# EAGLE library part AT93C46A-10?Q-2.7 (library atmel)
3-wire automotive serial EEPROM 1K (64 x 16) Source: http://www.atmel.com/dyn/resources/prod_documents/doc5089.pdf
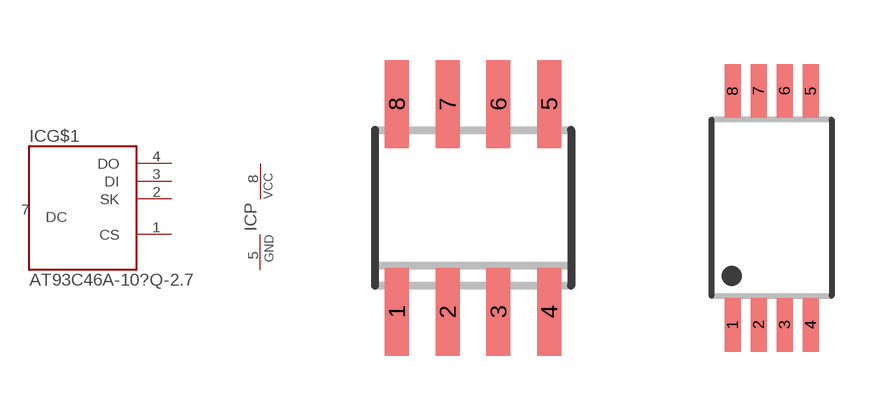
[diagram p7: symbol with the pads of SO8; footprints SO8, MO-153AA]

Designator prefix IC; gates G$1=AT93C46A P=PWR

## AT93C46A-10SQ-2.7  [SO8]
1  G$1:CS  in
2  G$1:SK  in
3  G$1:DI  in
4  G$1:DO  out
5  P:GND  pwr
6  G$1:NC  nc
7  G$1:DC  nc
8  P:VCC  pwr

## AT93C46A-10TQ-2.7  [MO-153AA]
Pads as for SO8

## Footprint SO8 (pad centres in mm)
Small Outline IC, 150mil body width, 50mil lead pitch package/pad dimensions according to IPC-SM-782, RLP No. 300A JEDEC: MS-012 AA IPC: SO8 other notations: SO-8, SO08, SO-08, SOIC8, SOIC-8, SOIC08, SOIC-08
smd 0.6 x 2.2: 1 -1.905,-2.6; 2 -0.635,-2.6; 3 0.635,-2.6; 4 1.905,-2.6; 5 1.905,2.6; 6 0.635,2.6; 7 -0.635,2.6; 8 -1.905,2.6

## Footprint MO-153AA (pad centres in mm)
Small Shrink Outline Package, 3.0mm x 4.4mm body, 0.65mm lead pitch JEDEC: MO-153, variation AA NXP: TSSOP8 (SOT530) Texas Instruments: PW (R-PDSO-G8) other notations: TSSOP8, TSSOP-8, TSSOP08, TSSOP-08
smd 0.4 x 1.35: 1 -0.975,-2.925; 2 -0.325,-2.925; 3 0.325,-2.925; 4 0.975,-2.925; 5 0.975,2.925; 6 0.325,2.925; 7 -0.325,2.925; 8 -0.975,2.925